# EAGLE library part LT3471 (library PowerProducts)
LT-Spice library generated with : ltspice.ulp from: D:/Program Files (x86)/LTC/LTspiceIV/lib/sym/PowerProducts/LT3472*.asy at 04.10.2012 21:48:38
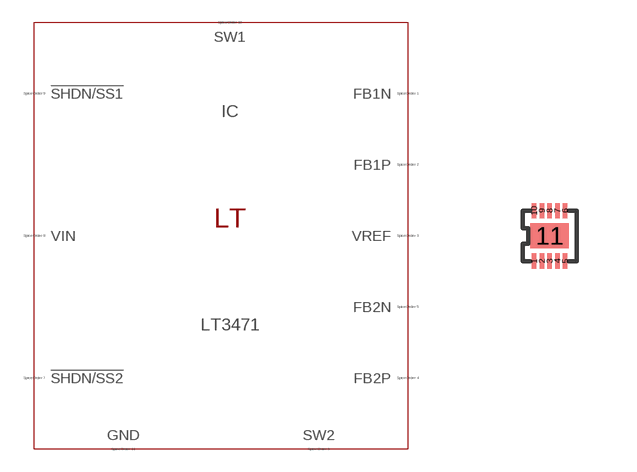
[diagram p17: symbol with the pads of DFN10(DD); footprint DFN10(DD)]

Designator prefix IC

## LT3471 (SPICEMODEL: LT1762.lib; SPICEPREFIX: X; VALUE2: LT1762)  [DFN10(DD)]
1  FB1N  pas
2  FB1P  pas
3  VREF  pas
4  FB2P  pas
5  FB2N  pas
6  SW2  pas
7  !SHDN/SS2  pas
8  VIN  pas
9  !SHDN/SS1  pas
10  SW1  pas
11  GND  pas

## Footprint DFN10(DD) (pad centres in mm)
Package generated from: DFN10(DD).asc (!PADS-POWERPCB-V9.3-BASIC! DESIGN DATABASE ASCII FILE 1.0) with :import-pads-powerpcb-v5.ulp Version 1.0.1 at 04.10.2012 14:11:16
smd 0.116 x 0.387: 1 -0.387,-0.629; 2 -0.194,-0.629; 3 0,-0.629; 4 0.194,-0.629; 5 0.387,-0.629; 6 0.387,0.629; 7 0.194,0.629; 8 0,0.629; 9 -0.194,0.629; 10 -0.387,0.629
smd 0.968 x 0.629: 11 0,0